# Altium integrated library Header100mil.IntLib: 1 symbol
Pins are listed as number, name and electrical type; pins without a type are passive.

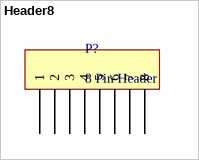
[diagram p0: symbol Header8]

## Header8
designator P?, comment 8 Pin Header
footprint Header8
pins: 1, 2, 3, 4, 5, 6, 7, 8